# Altium footprint library reg_pcbx6.PcbLib: 1 footprints
Each footprint in its own frame and in the unit in brackets; x right, y up, seen from the top. Pads: shape width x height; smd on the part's side, far side on the other; paste and mask are expansions set on the pad; w line width, h text height; cw(c..) or ccw(c..) is an arc to the next point about the centre after c.
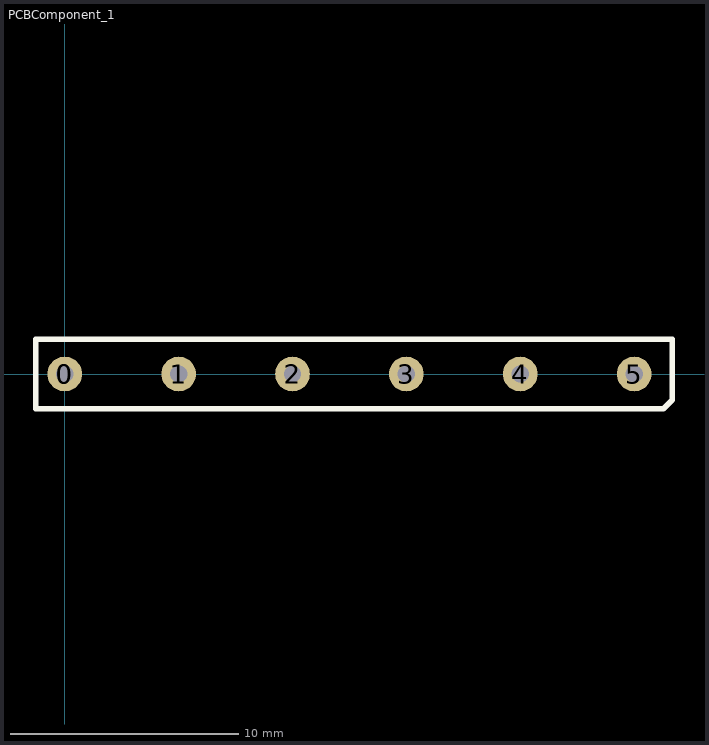
[diagram p0: the footprint, top view; thin cyan lines are the x and y axes]

## PCBComponent_1 [mil]
pads (7):
  round 60 hole 30: 0(0,0) 0(0,0) 1(196.85,0) 2(393.7,0) 3(590.55,0) 4(787.4,0) 5(984.25,0)
Top Overlay:
  lines w10: -50,-60 -50,60 1050,60 1050,-45 1035,-60 -50,-60